# Altium schematic symbol library AMEOF3-JZ.SchLib: 1 symbol
Pins are listed as number, name and electrical type; pins without a type are passive.

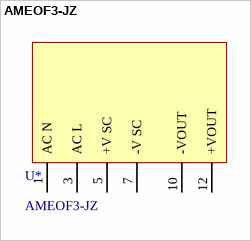
[diagram p0: symbol AMEOF3-JZ]

## AMEOF3-JZ
designator U*
230AC / 3W DC switching PSU
footprint AMEOF3-JZ
pins: 1 AC N, 3 AC L, 5 +V SC, 7 -V SC, 10 -VOUT, 12 +VOUT